# Altium schematic symbol library OLED.SchLib: 1 symbol
Pins are listed as number, name and electrical type; pins without a type are passive.

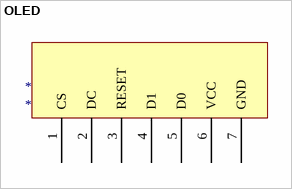
[diagram p0: symbol OLED]

## OLED
designator *
footprint OLED
footprint OLED_SNMALL
footprint OLED
footprint OLED_SNMALL
pins: 1 CS, 2 DC, 3 RESET, 4 D1, 5 D0, 6 VCC, 7 GND